# Altium integrated library 78L05ACZ.IntLib: 1 symbol
Pins are listed as number, name and electrical type; pins without a type are passive.

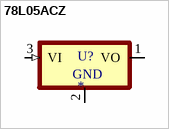
[diagram p0: symbol 78L05ACZ]

## 78L05ACZ
designator U?
Linear Voltage Regulator IC Positive Fixed 1 Output 100mA TO-92-3; MP: 78L05ACZ; MF: STMicroelectronics; SnapEDA_Link: https://www.snapeda.com/parts/78L05ACZ/STMicroelectronics/view-part/?ref=snap; Package: TO-92 ON; Check_prices: https://www.snapeda.com/parts/78L05ACZ/STMicroelectronics/view-part/?ref=eda; Purchase-URL: https://pricing.snapeda.com/search/part/78L05ACZ/?ref=eda; Price: None; Value: *; Availability: In Stock
footprint TO-92
pins: 1 VO, 2 GND, 3 VI (in)